# EAGLE library part SOCKET_CONTROL_BOARD (library CardEdgePads)
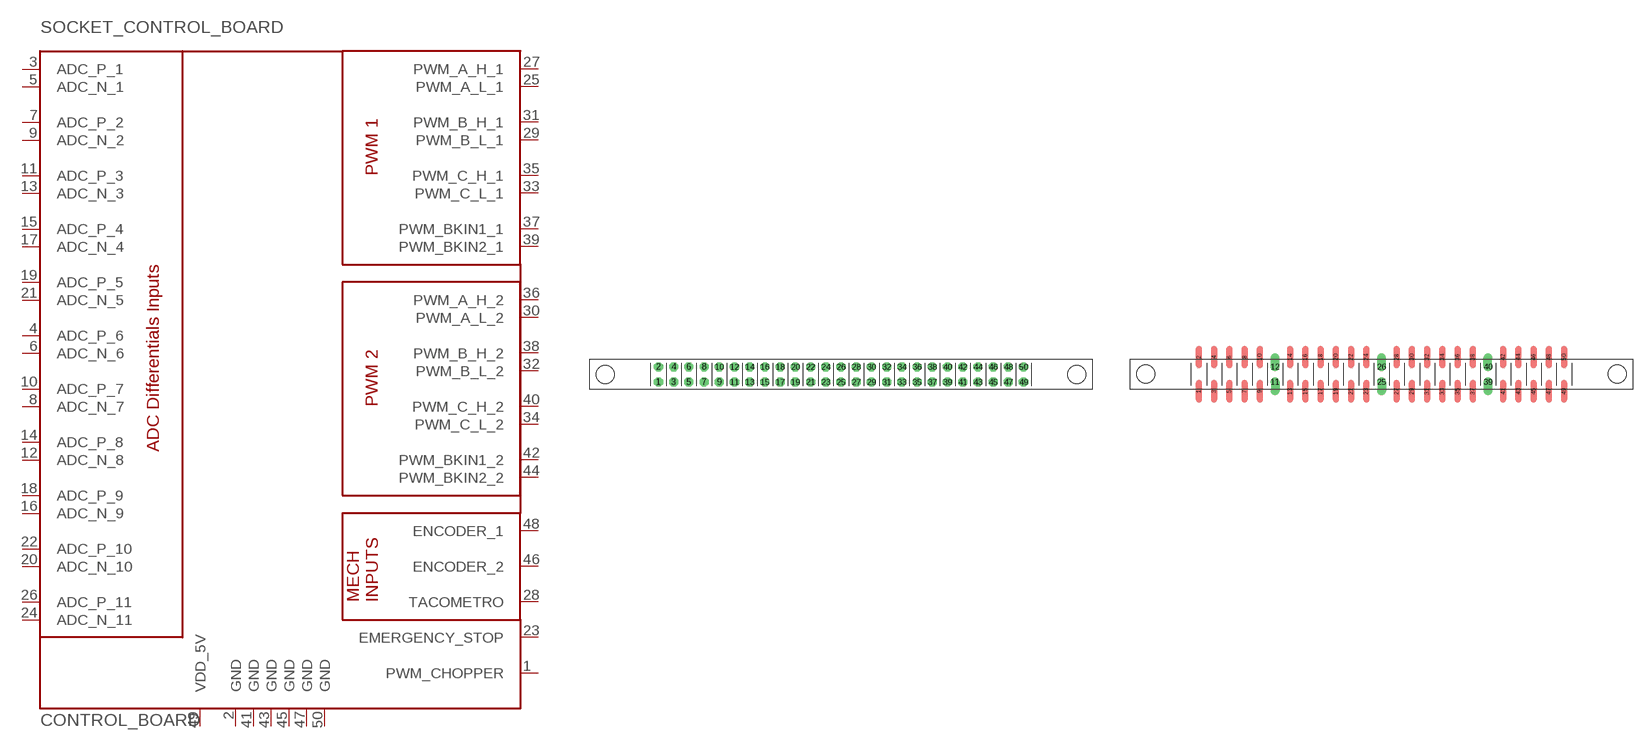
[diagram p10: symbol with the pads of 2X25_SOCKET; footprints 2X25_SOCKET, 2X25_SOCKET_SMD]

Designator prefix CONTROL_BOARD

## SOCKET_CONTROL_BOARD'THROUGH_HOLE'  [2X25_SOCKET]
1  PWM_CHOPPER
2  GND
3  ADC_P_1
4  ADC_P_6
5  ADC_N_1
6  ADC_N_6
7  ADC_P_2
8  ADC_N_7
9  ADC_N_2
10  ADC_P_7
11  ADC_P_3
12  ADC_N_8
13  ADC_N_3
14  ADC_P_8
15  ADC_P_4
16  ADC_N_9
17  ADC_N_4
18  ADC_P_9
19  ADC_P_5
20  ADC_N_10
21  ADC_N_5
22  ADC_P_10
23  EMERGENCY_STOP
24  ADC_N_11
25  PWM_A_L_1
26  ADC_P_11
27  PWM_A_H_1
28  TACOMETRO
29  PWM_B_L_1
30  PWM_A_L_2
31  PWM_B_H_1
32  PWM_B_L_2
33  PWM_C_L_1
34  PWM_C_L_2
35  PWM_C_H_1
36  PWM_A_H_2
37  PWM_BKIN1_1
38  PWM_B_H_2
39  PWM_BKIN2_1
40  PWM_C_H_2
41  GND
42  PWM_BKIN1_2
43  GND
44  PWM_BKIN2_2
45  GND
46  ENCODER_2
47  GND
48  ENCODER_1
49  VDD_5V
50  GND

## SOCKET_CONTROL_BOARDSMD  [2X25_SOCKET_SMD]
Pads as for 2X25_SOCKET

## Footprint 2X25_SOCKET (pad centres in mm)
drill 1.016 octagon: 1 -29.21,-1.27; 2 -29.21,1.27; 3 -26.67,-1.27; 4 -26.67,1.27; 5 -24.13,-1.27; 6 -24.13,1.27; 7 -21.59,-1.27; 8 -21.59,1.27; 9 -19.05,-1.27; 10 -19.05,1.27; 11 -16.51,-1.27; 12 -16.51,1.27; 13 -13.97,-1.27; 14 -13.97,1.27; 15 -11.43,-1.27; 16 -11.43,1.27; 17 -8.89,-1.27; 18 -8.89,1.27; 19 -6.35,-1.27; 20 -6.35,1.27; 21 -3.81,-1.27; 22 -3.81,1.27; 23 -1.27,-1.27; 24 -1.27,1.27; 25 1.27,-1.27; 26 1.27,1.27; 27 3.81,-1.27; 28 3.81,1.27; 29 6.35,-1.27; 30 6.35,1.27; 31 8.89,-1.27; 32 8.89,1.27; 33 11.43,-1.27; 34 11.43,1.27; 35 13.97,-1.27; 36 13.97,1.27; 37 16.51,-1.27; 38 16.51,1.27; 39 19.05,-1.27; 40 19.05,1.27; 41 21.59,-1.27; 42 21.59,1.27; 43 24.13,-1.27; 44 24.13,1.27; 45 26.67,-1.27; 46 26.67,1.27; 47 29.21,-1.27; 48 29.21,1.27; 49 31.75,-1.27; 50 31.75,1.27
hole 3 at -38.1,0
hole 3 at 40.64,0

## Footprint 2X25_SOCKET_SMD (pad centres in mm)
smd 1.016 x 3.81: 1 -29.21,-2.857; 2 -29.21,2.857; 3 -26.67,-2.857; 4 -26.67,2.857; 5 -24.13,-2.857; 6 -24.13,2.857; 7 -21.59,-2.857; 8 -21.59,2.857; 9 -19.05,-2.857; 10 -19.05,2.857; 13 -13.97,-2.857; 14 -13.97,2.857; 15 -11.43,-2.857; 16 -11.43,2.857; 17 -8.89,-2.857; 18 -8.89,2.857; 19 -6.35,-2.857; 20 -6.35,2.857; 21 -3.81,-2.857; 22 -3.81,2.857; 23 -1.27,-2.857; 24 -1.27,2.857; 27 3.81,-2.857; 28 3.81,2.857; 29 6.35,-2.857; 30 6.35,2.857; 31 8.89,-2.857; 32 8.89,2.857; 33 11.43,-2.857; 34 11.43,2.857; 35 13.97,-2.857; 36 13.97,2.857; 37 16.51,-2.857; 38 16.51,2.857; 41 21.59,-2.857; 42 21.59,2.857; 43 24.13,-2.857; 44 24.13,2.857; 45 26.67,-2.857; 46 26.67,2.857; 47 29.21,-2.857; 48 29.21,2.857; 49 31.75,-2.857; 50 31.75,2.857
drill 1 pad 1.5 offset: 11 -16.51,-1.27; 12 -16.51,1.27; 25 1.27,-1.27; 26 1.27,1.27; 39 19.05,-1.27; 40 19.05,1.27